# EAGLE library part EEPROM-AT93C46E (library podkommander)
Amtel Three-wire Serial EEPROM 1K (64 x 16)
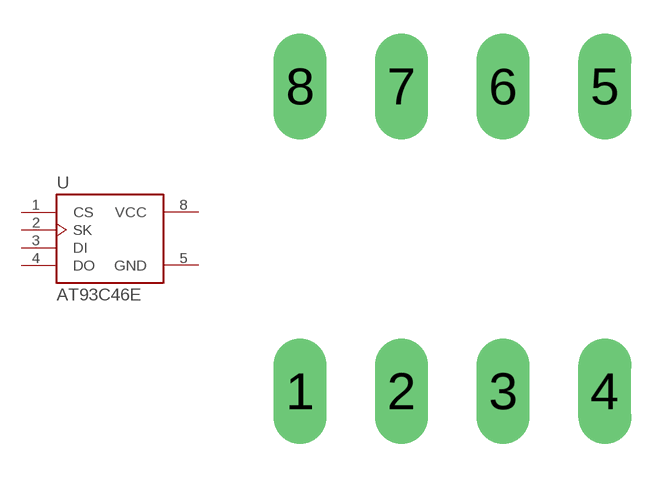
[diagram p4: symbol with the pads of DIP08-SOCKET; footprint DIP08-SOCKET]

Designator prefix U

## EEPROM-AT93C46E-PU  [DIP08-SOCKET]
1  CS
2  SK
3  DI
4  DO
5  GND  pwr
8  VCC  pwr

## Footprint DIP08-SOCKET (pad centres in mm)
drill 0.813 long: 1 -3.81,-3.81; 2 -1.27,-3.81; 3 1.27,-3.81; 4 3.81,-3.81; 5 3.81,3.81; 6 1.27,3.81; 7 -1.27,3.81; 8 -3.81,3.81